# Altium footprint library IC_DCDC.PcbLib: 2 footprints
Each footprint in its own frame and in the unit in brackets; x right, y up, seen from the top. Pads: shape width x height; smd on the part's side, far side on the other; paste and mask are expansions set on the pad; w line width, h text height; cw(c..) or ccw(c..) is an arc to the next point about the centre after c.
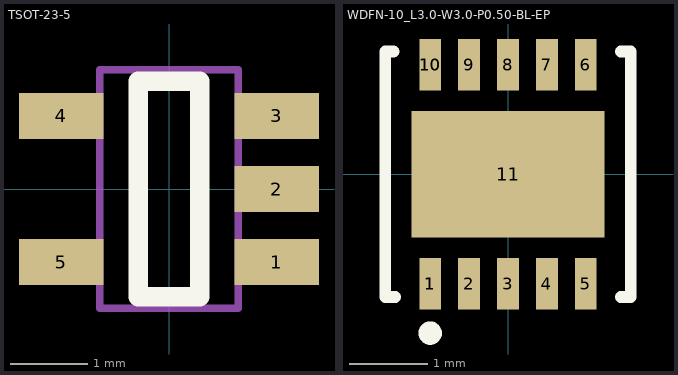
[diagram p0: the footprints below, top view; thin cyan lines are the x and y axes]

## TSOT-23-5 [mm]
pads (5):
  rect 1.1x0.6 smd: 1(1.4,-0.95) 2(1.4,0) 3(1.4,0.95) 4(-1.4,0.95) 5(-1.4,-0.95)
Top Overlay:
  lines w0.254: -0.4,-1.4 0.4,-1.4 0.4,1.4 -0.4,1.4 -0.4,-1.4
Mechanical 13:
  lines w0.1: -0.9,-1.55 -0.9,1.55 0.9,1.55 0.9,-1.55 -0.9,-1.55
3D body "SOT-23-5.STEP": height 1.2, standoff 0, extent -1.4,-1.45 1.4,1.45

## WDFN-10_L3.0-W3.0-P0.50-BL-EP [mm]
pads (13):
  rect 0.279x0.665 smd: 1(-1,-1.407) 1(-1,-1.407) 2(-0.5,-1.407) 3(0,-1.407) 4(0.5,-1.407) 5(1,-1.407) 6(1,1.407) 7(0.5,1.407) 8(0,1.407) 9(-0.5,1.407) 10(-1,1.407) 10(-1,1.407)
  rect 2.474x1.626 smd: 11(0,0)
Top Overlay:
  circle w0.15: c-1,-2.04 r0.076
  lines w0.152: -1.471,1.577 -1.577,1.577 -1.577,-1.577 -1.45,-1.577 ; 1.45,-1.577 1.577,-1.577 1.577,1.577 1.45,1.577